# Altium schematic symbol library Optoelectronics.SchLib: 87 symbols
Pins are listed as number, name and electrical type; pins without a type are passive.

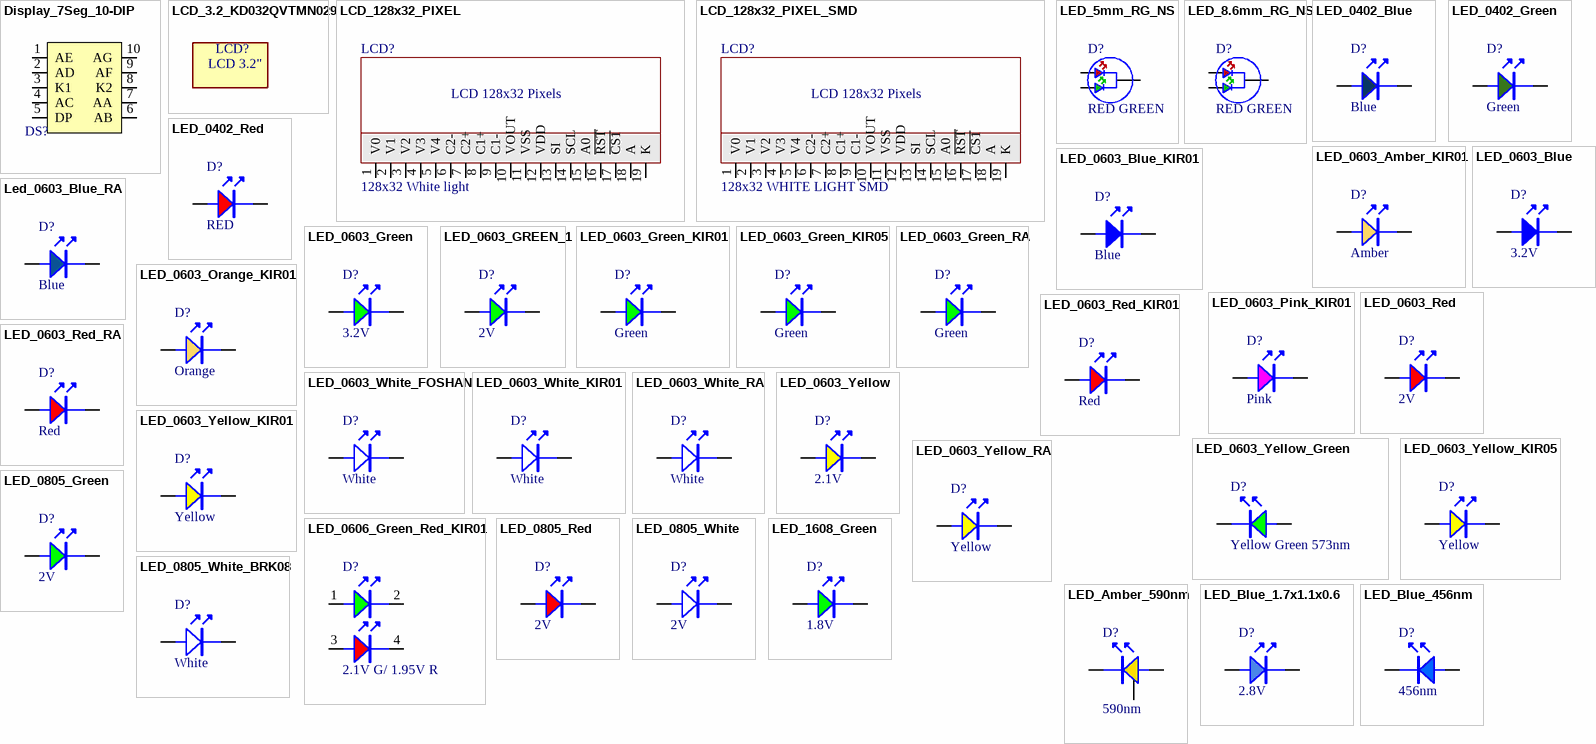
[diagram p0: symbols Display_7Seg_10-DIP to LED_Blue_456nm]

## Display_7Seg_10-DIP
designator DS?
DISPLAY 7SEG 0.56" SGL RED 10DIP; Manufacturer: Broadcom Limited; Manufacturer Part Number: HDSP-H103; Supplier 1: Digi-Key; Supplier Part Number 1: 516-1229-5-ND; Last modified by: J.Jaramillo; Last modified date: 20240328; Reel Stock: N/A; ComponentLink1Description: Link; ComponentLink2Description: Digi-Key; ComponentLink2URL: https://www.digikey.com/en/products/detail/broadcom-limited/HDSP-H103/637493
footprint DISPLAY_7SEG_10-DIP (/20240328/ J.Jaramillo)
pins: 1 AE, 2 AD, 3 K1 (power), 4 AC, 5 DP, 6 AB, 7 AA, 8 K2, 9 AF, 10 AG

## LCD_3.2_KD032QVTMN029
designator LCD?  (graphical)
LCD - HIGH BRIGHTNESS 3.2"; Manufacturer: SHENZEN STARTEK ELECTRONICS CO; Manufacturer Part Number: KD032QVTMN029; Supplier 1: Poshton; Supplier Part Number 1: KD032QVTMN029; Last modified by: J.Jaramillo; Last modified date: 20240310; Reel Stock: N/A; ComponentLink1Description: Datasheet; ComponentLink1URL: http://54.94.62.84/svn/Libraries/Altium/Optoelectronics/Datasheets/KD032QVTMN029%20(REV%20V1)(1).pdf
text: LCD 3.2"

## LCD_128x32_PIXEL
designator LCD?, comment 128x32 White light
LCD COG GRAPHIC 128X32; Manufacturer: Newhaven Display Intl; Manufacturer Part Number: NHD-C12832A1Z-FSW-FBW-3V3; Supplier 1: Digi-Key; Supplier Part Number 1: NHD-C12832A1Z-FSW-FBW-3V3-ND; Reel Stock: N/A; Last modified by: J.Jaramillo; Last modified date: 20240310; ComponentLink1Description: Digi-Key; ComponentLink1URL: https://www.digikey.com/product-detail/en/NHD-C12832A1Z-FSW-FBW-3V3/NHD-C12832A1Z-FSW-FBW-3V3-ND/2059236?utm_campaign=buynow&WT.z_cid=ref_octopart_dkc_buynow&utm_medium=aggregator&curr=usd&site=us&utm_source=octopart
footprint LCD_COG_128x32 (128x32 pixel / 20190226 / H-D.Garcia)
pins: 1 V0, 2 V1, 3 V2, 4 V3, 5 V4, 6 C2-, 7 C2+, 8 C1+, 9 C1-, 10 VOUT, 11 VSS, 12 VDD, 13 SI, 14 SCL, 15 A0, 16 ~{RST}, 17 ~{CS1}, 18 A, 19 K
text: LCD 128x32 Pixels

## LCD_128x32_PIXEL_SMD
designator LCD?, comment 128x32 WHITE LIGHT SMD
LCD COG GRAPHIC 128X32; Manufacturer: Newhaven Display Intl; Manufacturer Part Number: NHD-C12832A1Z-FSW-FBW-3V3; Supplier 1: Digi-Key; Supplier Part Number 1: NHD-C12832A1Z-FSW-FBW-3V3-ND; Reel Stock: N/A; Last modified by: J.Jaramillo; Last modified date: 20240310; ComponentLink1Description: Digi-Key; ComponentLink1URL: https://www.digikey.com/product-detail/en/NHD-C12832A1Z-FSW-FBW-3V3/NHD-C12832A1Z-FSW-FBW-3V3-ND/2059236?utm_campaign=buynow&WT.z_cid=ref_octopart_dkc_buynow&utm_medium=aggregator&curr=usd&site=us&utm_source=octopart
footprint LCD_COG_128x32_SMD (/ 20190328 / V-A.Patino)
pins: 1 V0, 2 V1, 3 V2, 4 V3, 5 V4, 6 C2-, 7 C2+, 8 C1+, 9 C1-, 10 VOUT, 11 VSS, 12 VDD, 13 SI, 14 SCL, 15 A0, 16 ~{RST}, 17 ~{CS1}, 18 A, 19 K
text: LCD 128x32 Pixels

## LED_5mm_RG_NS
designator D?, comment RED GREEN
LED GREEN/RED DIFFUSED T-1 T/H; Manufacturer: SunLED; Manufacturer Part Number: XLMDKVG34M; Reel Stock: N/A; Last modified by: J.Jaramillo; Last modified date: 20240310; Supplier 1: Digi-Key; Supplier Part Number 1: 1497-1019-ND; ComponentLink1Description: Digi-key; ComponentLink1URL: https://www.digikey.com/products/en?keywords=XLMDKVG34M
footprint LED_5mm_SMD_NS (20190516 / V-A.Patino)
pins: 1 (power), 2 (power), 3 (power)

## LED_8.6mm_RG_NS
designator D?, comment RED GREEN
LED GRN/RED DIFFUSED T-1 3/4 T/H; Manufacturer Part Number: LTL-30EHJ; Manufacturer: Lite-On Inc.; Last modified by: J.Jaramillo; Last modified date: 20240310; Supplier 1: Digikey; Supplier Part Number: 160-1057-ND; Reel Stock: N/A; ComponentLink1Description: Digikey; ComponentLink1URL: https://www.digikey.com/en/products/detail/lite-on-inc/LTL-30EHJ/121839
footprint LED_8.6mm_SMD_NS (/20201021 / J-E.Pachon)
pins: 1 (power), 2 (power), 3 (power)

## LED_0402_Blue
designator D?, comment Blue
LED BLUE CLEAR 0402 SMD; Manufacturer: QT Brightek (QTB); Manufacturer Part Number: QBLP595-IB; ComponentLink1URL: https://www.digikey.com/en/products/detail/qt-brightek-qtb/QBLP595-IB/6201906; Supplier 1: Digi-Key; Supplier Part Number 1: 1516-1215-1-ND; Last modified by: J.Jaramillo; Last modified date: 20240310; ComponentLink1Description: Digi-key; Reel Stock: N/A
footprint LED_0402 (0402 (1005 Metric) / 20191217 / N-A.Potosi)
pins: 1 A, 2

## LED_0402_Green
designator D?, comment Green
LED GREEN CLEAR 0402 SMD; Manufacturer: Wurth Electronics Inc.; Manufacturer Part Number: 150040VS73240; ComponentLink1URL: https://www.digikey.com/en/products/detail/w%C3%BCrth-elektronik/150040VS73240/8557157; Supplier 1: Digi-Key; Supplier Part Number 1: 732-11992-1-ND; Last modified by: J.Jaramillo; Last modified date: 20240310; ComponentLink1Description: Digi-key; Reel Stock: N/A
footprint LED_0402 (0402 (1005 Metric) / 20191217 / N-A.Potosi)
pins: 1 A, 2

## LED_0402_Red
designator D?, comment RED
LED RED CLEAR 0402 SMD; Manufacturer: Wurth Electronics Inc.; Manufacturer Part Number: 150040RS73240; ComponentLink1URL: https://www.digikey.com/product-detail/en/w-rth-elektronik/150040RS73240/732-11991-1-ND/8557201; Supplier 1: Digi-Key; Supplier Part Number 1: 732-11991-1-ND; Last modified by: J.Jaramillo; Last modified date: 20240310; ComponentLink1Description: Digi-key; Reel Stock: N/A
footprint LED_0402 (0402 (1005 Metric) / 20191217 / N-A.Potosi)
pins: 1 A, 2

## LED_0603_Amber_KIR01
designator D?, comment Amber
Amber LED 135mcd,160deg,diff; Manufacturer: Hivemicro; Manufacturer Part Number: HM-1608G-OHY; Supplier 1: Poshton; Supplier Part Number 1: HM-1608G-OHY; Last modified by: J.Jaramillo; Last modified date: 20240310; Reel Stock: N/A
footprint LED_0603_KIR01 (/ C-A.Serna.A / 20190709)
pins: 1 A, 2

## LED_0603_Blue
designator D?, comment 3.2V
LED BLUE CLEAR 0603 SMD; Manufacturer: Wurth Electronics Inc.; Manufacturer Part Number: 150060BS75000; ComponentLink1URL: https://www.digikey.com/product-detail/en/wurth-electronics-inc/150060BS75000/732-4966-1-ND/4489893; Supplier 1: Digi-Key; Supplier Part Number 1: 732-4966-1-ND; Last modified by: J.Jaramillo; Last modified date: 20240310; ComponentLink1Description: Digi-key; Reel Stock: N/A
footprint LED_0603 (1608 metric / 20190226 / H-D.Garcia)
pins: 1 A, 2 K

## LED_0603_Blue_KIR01
designator D?, comment Blue
Blue LED 42mcd,135deg,diff; Manufacturer: Hivemicro; Manufacturer Part Number: SV-CT0603UBC; Supplier 1: Poshton; Supplier Part Number 1: SV-CT0603UBC; Last modified by: J.Jaramillo; Last modified date: 20240310; Reel Stock: N/A
footprint LED_0603_KIR01 (/ C-A.Serna.A / 20190709)
pins: 1 A, 2 K

## Led_0603_Blue_RA
designator D?, comment Blue
LED BLUE CLEAR CHIP SMD R/A; Manufacturer: Lite-On Inc.; Manufacturer Part Number: LTST-S270TBKT; Supplier 1: Digi-Key; Supplier Part Number 1: 160-1650-1-ND; Reel Stock: N/A; Last modified by: J.Jaramillo; Last modified date: 20240310; ComponentLink1Description: Digi-Key; ComponentLink1URL: https://www.digikey.com/en/products/detail/lite-on-inc/LTST-S270TBKT/573548
footprint LED_0603_RA (/20220504/J-E.Pachon)
pins: 1 A, 2 C

## LED_0603_Green
designator D?, comment 3.2V
LED GREEN CLEAR 0603 SMD; Manufacturer: Wurth Electronics Inc.; Manufacturer Part Number: 150060GS75000; ComponentLink1URL: https://www.digikey.com/products/en?keywords=732-4971-1-ND; Supplier 1: Digi-Key; Supplier Part Number 1: 732-4971-1-ND; Last modified by: J.Jaramillo; Last modified date: 20240310; ComponentLink1Description: Digi-key; Reel Stock: N/A
footprint LED_0603 (1608 metric / 20190226 / H-D.Garcia)
pins: 1 A, 2

## LED_0603_GREEN_1
designator D?, comment 2V
LED GREEN CLEAR 0603 SMD; Manufacturer: Dialight; Manufacturer Part Number: 5988070107F; Supplier 1: Digi-Key; Supplier Part Number 1: 350-2035-1-ND; Reel Stock: N/A; Last modified by: J.Jaramillo; Last modified date: 20240310; ComponentLink1Description: Digi-Key; ComponentLink1URL: https://www.digikey.com/en/products/detail/dialight/5988070107F/1291269
footprint LED_0603 (1608 metric / 20190226 / H-D.Garcia)
pins: 1, 2

## LED_0603_Green_KIR01
designator D?, comment Green
Green LED 15mcd,170deg,diff; Manufacturer: Hivemicro; Manufacturer Part Number: LY-0603C-YG; Supplier 1: Poshton; Supplier Part Number 1: LY-0603C-YG; Reel Stock: N/A; Last modified by: J.Jaramillo; Last modified date: 20240310
footprint LED_0603_KIR01 (/ V-A.Patino / 20220622)
pins: 1 A, 2

## LED_0603_Green_KIR05
designator D?, comment Green
LED GREEN DIFFUSED 0603 SMD; Manufacturer: OSRAM Opto Semiconductors Inc.; Manufacturer Part Number: LG L29K-F2J1-24-Z; Supplier 1: Digi-Key; Supplier Part Number 1: 475-3118-1-ND; Reel Stock: N/A; Last modified by: J.Jaramillo; Last modified date: 20240310; ComponentLink1Description: Digi-Key; ComponentLink1URL: https://www.digikey.com/en/products/detail/osram-opto-semiconductors-inc/LG-L29K-F2J1-24-Z/2513791?s=N4IgTCBcDaICwHYCsBaAzARgwDhRlAcgCIgC6AvkA
footprint LED_0603 (1608 metric / 20190226 / H-D.Garcia)
pins: 1 A, 2

## LED_0603_Green_RA
designator D?, comment Green
LED GREEN CLEAR CHIP SMD R/A; Manufacturer: Lite-On Inc.; Manufacturer Part Number: LTST-S270KGKT; Supplier 1: Digi-Key; Supplier Part Number 1: 160-1478-1-ND; Reel Stock: N/A; Last modified by: J.Jaramillo; Last modified date: 20240310; ComponentLink1Description: Digi-Key; ComponentLink1URL: https://www.digikey.com/en/products/detail/lite-on-inc/LTST-S270KGKT/386893?s=N4IgTCBcDaIDIBUDKCC0SwHYAMBpA4rgiALoC%2BQA
footprint LED_0603_RA (/20220504/J-E.Pachon)
pins: 1 A, 2 C

## LED_0603_Orange_KIR01
designator D?, comment Orange
Orange LED 157mcd,160deg,diff; Manufacturer: Hivemicro; Manufacturer Part Number: SV-C0603UOC; Supplier 1: Poshton; Supplier Part Number 1: SV-C0603UOC; Last modified by: J.Jaramillo; Last modified date: 20240310; Reel Stock: N/A
footprint LED_0603_KIR01 (/ C-A.Serna.A / 20190709)
pins: 1 A, 2

## LED_0603_Pink_KIR01
designator D?, comment Pink
Pink LED 26mcd; Manufacturer: Hivemicro; Manufacturer Part Number: HM0603D-PP; Supplier 1: Poshton; Supplier Part Number 1: HM0603D-PP; Reel Stock: N/A; Last modified by: J.Jaramillo; Last modified date: 20240310
footprint LED_0603_KIR01 (/ C-A.Serna.A / 20190709)
pins: 1 A, 2

## LED_0603_Red
designator D?, comment 2V
LED RED CLEAR 0603 SMD; Manufacturer: Wurth Electronics Inc.; Manufacturer Part Number: 150060RS75000; ComponentLink1URL: https://www.digikey.com/product-detail/en/wurth-electronics-inc/150060RS75000/732-4978-1-ND/4489899; Supplier 1: Digi-Key; Supplier Part Number 1: 732-4978-1-ND; Last modified by: J.Jaramillo; Last modified date: 20240310; ComponentLink1Description: Digi-key; Reel Stock: N/A
footprint LED_0603 (1608 metric / 20190226 / H-D.Garcia)
pins: 1 A, 2

## LED_0603_Red_KIR01
designator D?, comment Red
Red LED 104mcd,160deg,diff; Manufacturer: Hivemicro; Manufacturer Part Number: LY-0603 C-RD; Supplier 1: Poshton; Supplier Part Number 1: LY-0603 C-RD; Last modified by: J.Jaramillo; Last modified date: 20240310; Reel Stock: N/A
footprint LED_0603_KIR01 (/ C-A.Serna.A / 20190709)
pins: 1 A, 2

## LED_0603_Red_RA
designator D?, comment Red
LED RED CLEAR CHIP SMD R/A; Manufacturer: Lite-On Inc.; Manufacturer Part Number: LTST-S270KRKT; Supplier 1: Digi-Key; Supplier Part Number 1: 160-1479-1-ND; Reel Stock: N/A; Last modified by: J.Jaramillo; Last modified date: 20240310; ComponentLink1Description: Digi-Key; ComponentLink1URL: https://www.digikey.com/en/products/detail/lite-on-inc/LTST-S270KRKT/386895?s=N4IgTCBcDaIDIBUDKCC0SwHYAMBpASrgiALoC%2BQA
footprint LED_0603_RA (/20220504/J-E.Pachon)
pins: 1 A, 2 C

## LED_0603_White_FOSHAN
designator D?, comment White
White 0603 Light Emitting Diodes (LED) RoHS; Manufacturer: FOSHAN NATIONSTAR OPTOELECTRONICS; Manufacturer Part Number: NCD0603W1; Supplier 1: LCSC; Supplier Part Number 1: C84265; Last modified by: J.Jaramillo; Last modified date: 20240310; Reel Stock: N/A; ComponentLink1Description: LCSC; ComponentLink1URL: https://lcsc.com/product-detail/Light-Emitting-Diodes-LED_Foshan-NationStar-Optoelectronics-NCD0603W1_C84265.html
footprint LED_0603 (1608 metric / 20190226 / H-D.Garcia)
pins: 1 A, 2

## LED_0603_White_KIR01
designator D?, comment White
White LED 200mcd,140deg, diff; Manufacturer: Hivemicro; Manufacturer Part Number: SV-CT0603UW-HD; Supplier 1: Poshton; Supplier Part Number 1: SV-CT0603UW-HD; Last modified by: J.Jaramillo; Last modified date: 20240310; Reel Stock: N/A
footprint LED_0603_KIR01 (/ C-A.Serna.A / 20190709)
pins: 1 A, 2

## LED_0603_White_RA
designator D?, comment White
LED WHITE CLEAR 0603 SMD R/A; Manufacturer: Inolux; Manufacturer Part Number: IN-S63AS5UW; Supplier 1: Digi-Key; Supplier Part Number 1: 1830-1031-1-ND; Reel Stock: N/A; Last modified by: J.Jaramillo; Last modified date: 20240310; ComponentLink1Description: Digi-Key; ComponentLink1URL: https://www.digikey.com/en/products/detail/inolux/IN-S63AS5UW/7604923
footprint LED_0603_RA (/20220504/J-E.Pachon)
pins: 1 A, 2

## LED_0603_Yellow
designator D?, comment 2.1V
LED YELLOW CLEAR SMD; Manufacturer: Lite-On Inc.; Manufacturer Part Number: LTST-C191KSKT; Supplier 1: Digi-Key; Supplier Part Number 1: 160-1448-1-ND; Last modified by: J.Jaramillo; Last modified date: 20240310; Reel Stock: N/A; ComponentLink1Description: Digi-Key; ComponentLink1URL: https://www.digikey.com/product-detail/en/lite-on-inc/LTST-C191KSKT/160-1448-2-ND/386839
footprint LED_0603 (1608 metric / 20190226 / H-D.Garcia)
pins: 1 A, 2

## LED_0603_Yellow_Green
designator D?, comment Yellow Green 573nm
LED YELLOW/GREEN CLEAR 0603 SMD; Manufacturer: Everlight Electronics Co Ltd; Manufacturer Part Number: 19-21SYGC/S530-E2/TR8; Supplier 1: Digi-Key; Supplier Part Number 1: 1080-1501-1-ND; Reel Stock: N/A; Last modified by: J.Jaramillo; Last modified date: 20240310; ComponentLink1Description: Digi-Key; ComponentLink1URL: https://www.digikey.com/product-detail/en/everlight-electronics-co-ltd/19-21SYGC-S530-E2-TR8/1080-1501-1-ND/7707773
footprint LED_0603 (1608 metric / 20190226 / H-D.Garcia)
pins: 1 K, 2 A

## LED_0603_Yellow_KIR01
designator D?, comment Yellow
Yellow LED 162mcd,140deg, diff; Manufacturer: Hivemicro; Manufacturer Part Number: SV-C0603 YEC; Supplier 1: Poshton; Supplier Part Number 1: SV-C0603 YEC; Last modified by: J.Jaramillo; Last modified date: 20240310; Reel Stock: N/A
footprint LED_0603_KIR01 (/ C-A.Serna.A / 20190709)
pins: 1 A, 2

## LED_0603_Yellow_KIR05
designator D?, comment Yellow
LED YELLOW DIFFUSED 0603 SMD; Manufacturer: OSRAM Opto Semiconductors Inc.; Manufacturer Part Number: LY L29K-H1K2-26-Z; Supplier 1: Digi-Key; Supplier Part Number 1: 475-1196-1-ND; Last modified by: J.Jaramillo; Last modified date: 20240310; Reel Stock: N/A; ComponentLink1Description: Digi-Key; ComponentLink1URL: https://www.digikey.com/products/en?keywords=475-1196-1-ND
footprint LED_0603 (1608 metric / 20190226 / H-D.Garcia)
pins: 1 A, 2

## LED_0603_Yellow_RA
designator D?, comment Yellow
LED YELLOW CLEAR CHIP SMD R/A; Manufacturer: Lite-On Inc.; Manufacturer Part Number: LTST-S270KSKT; Supplier 1: Digi-Key; Supplier Part Number 1: 160-1480-1-ND; Reel Stock: N/A; Last modified by: J.Jaramillo; Last modified date: 20240310; ComponentLink1Description: Digi-Key; ComponentLink1URL: https://www.digikey.com/en/products/detail/lite-on-inc/LTST-S270KSKT/386897?s=N4IgTCBcDaIDIBUDKCC0SwHYAMBpJuCIAugL5A
footprint LED_0603_RA (/20220504/J-E.Pachon)
pins: 1 A, 2

## LED_0606_Green_Red_KIR01
designator D?, comment 2.1V G/ 1.95V R
LED GREEN/RED CLEAR CHIP SMD; Manufacturer: Kingbright; Manufacturer Part Number: APTB1615SURKCGKC-F01; Supplier 1: Digi-Key; Supplier Part Number 1: 754-1653-1-ND; Reel Stock: N/A; Last modified by: J.Jaramillo; Last modified date: 20240310; ComponentLink1Description: Digi-Key; ComponentLink1URL: https://www.digikey.com/product-detail/en/kingbright/APTB1615SURKCGKC-F01/754-1653-1-ND/4199675
footprint LED_0606 (1616 Metric  / C-A.Serna.A / 20190709)
pins: 1 A, 2 K, 3 A, 4 K

## LED_0805_Green
designator D?, comment 2V
LED GREEN CLEAR 0805 SMD; Manufacturer: HIVEMICRO; Manufacturer Part Number: HAM-C171KGKT-YA; Supplier 1: Poshton; Supplier Part Number 1: HAM-C171KGKT-YA; Last modified by: J.Jaramillo; Last modified date: 20240310; Reel Stock: N/A
footprint LED_0805 (2012 metric / 20200123 / V-A.Patino)
footprint LED_0805_2 (2012 metric / 20200123 / V-A.Patino)
pins: 1 A, 2

## LED_0805_Red
designator D?, comment 2V
LED RED CLEAR 0805 SMD; Manufacturer: HIVEMICRO; Manufacturer Part Number: 27HAM-C171KRKT-YA; Supplier 1: Poshton; Supplier Part Number 1: 27HAM-C171KRKT-YA; Last modified by: J.Jaramillo; Last modified date: 20240310; Reel Stock: N/A
footprint LED_0805 (2012 metric / 20200123 / V-A.Patino)
footprint LED_0805_2 (2012 metric / 20200123 / V-A.Patino)
pins: 1 A, 2

## LED_0805_White
designator D?, comment 2V
LED WHITE CLEAR 0805 SMD; Manufacturer: HIVEMICRO; Manufacturer Part Number: HAM-170ZDC-YA; Supplier 1: Poshton; Supplier Part Number 1: HAM-170ZDC-YA; Last modified by: J.Jaramillo; Last modified date: 20240310; Reel Stock: N/A
footprint LED_0805 (2012 metric / 20200123 / V-A.Patino)
footprint LED_0805_2 (2012 metric / 20200123 / V-A.Patino)
pins: 1 A, 2

## LED_0805_White_BRK08
designator D?, comment White
WHITE 0805 LIGHT EMITTING DIODES (LED) ROHS; Manufacturer: FOSHAN NATIONSTAR OPTOELECTRONICS; Manufacturer Part Number: NCD0805W2; Supplier 1: LCSC; Supplier Part Number 1: C84258; Last modified by: J.Jaramillo; Last modified date: 20240310; Reel Stock: N/A; ComponentLink1Description: LCSC; ComponentLink1URL: https://lcsc.com/product-detail/Light-Emitting-Diodes-LED_Foshan-NationStar-Optoelectronics-NCD0805W2_C84258.html
footprint LED_0805 (2012 metric / 20200123 / V-A.Patino)
pins: 1 A, 2

## LED_1608_Green
designator D?, comment 1.8V
LED PURE GREEN 1608 SMD; Manufacturer: OSRAM Opto Semiconductors Inc.; Manufacturer Part Number: KP DELLS1.22-FGGI-25-0-2-S; ComponentLink1URL: https://www.digikey.com/en/products/detail/osram-opto-semiconductors-inc/KP-DELLS1-22-FGGI-25-0-2-S/10433452?s=N4IgTCBcDaINIAUAEARAogGQwZQIwDowwBaAMQHFyBJYsAVmIAZbjsQBdAXyA; Supplier 1: Digi-Key; Supplier Part Number 1: 475-KPDELLS1.22-FGGI-25-0-2-STR-ND; Last modified by: J.Jaramillo; Last modified date: 20240310; ComponentLink1Description: Digi-key; Reel Stock: N/A
footprint LED_0603 (1608 metric / 20190226 / H-D.Garcia)
pins: 1 A, 2

## LED_Amber_590nm
designator D?, comment 590nm
LED XLAMP XPE2 AMBER 590NM 2SMD; Manufacturer: Cree Inc.; Manufacturer Part Number: XPEBAM-L1-0000-00801; Supplier 1: Digi-Key; Supplier Part Number 1: XPEBAM-L1-0000-00801CT-ND; Reel Stock: N/A; Last modified by: J.Jaramillo; Last modified date: 20240310; ComponentLink1Description: Digi-Key; ComponentLink1URL: https://www.digikey.com/product-detail/en/cree-inc/XPEBAM-L1-0000-00801/XPEBAM-L1-0000-00801CT-ND/5806125
footprint LED_3535_EP (1414/3.5mmx3.5mm/ 2-SMD/ 20190527/ J-P.Vargas.A)
pins: 1 K, 2 A, 3 EP

## LED_Blue_1.7x1.1x0.6
designator D?, comment 2.8V
Light Emitting Diodes (LED), 462.5nm~470nm Blue, 25mA 43mcd 2.8V; Manufacturer: XINGLIGHT; Manufacturer Part Number: XL-1606UBC; Supplier 1: LCSC; Supplier Part Number 1: C965865; Last modified by: J.Jaramillo; Last modified date: 20240310; Reel Stock: N/A; ComponentLink1Description: LCSC; ComponentLink1URL: https://lcsc.com/product-detail/Light-Emitting-Diodes-LED_XINGLIGHT-XL-1606UBC_C965865.html
footprint LED_2_SMD_1.7x1.1x0.6 (/20220503/V-A.Patino)
pins: 1 A, 2

## LED_Blue_456nm
designator D?, comment 456nm
LED BLUE CLEAR 2SMD; Manufacturer: Wurth Electronics Inc.; Manufacturer Part Number: 150224BS73100; Supplier 1: Digi-Key; Supplier Part Number 1: 732-11397-1-ND; Reel Stock: N/A; Last modified by: J.Jaramillo; Last modified date: 20240310; ComponentLink1Description: Digi-Key; ComponentLink1URL: https://www.digikey.com/product-detail/en/wurth-electronics-inc/150224BS73100/732-11397-1-ND/7316002
footprint LED_2014_2P (2-SMD/ 20190527/ J-P.Vargas.A)
pins: 1 K, 2 A

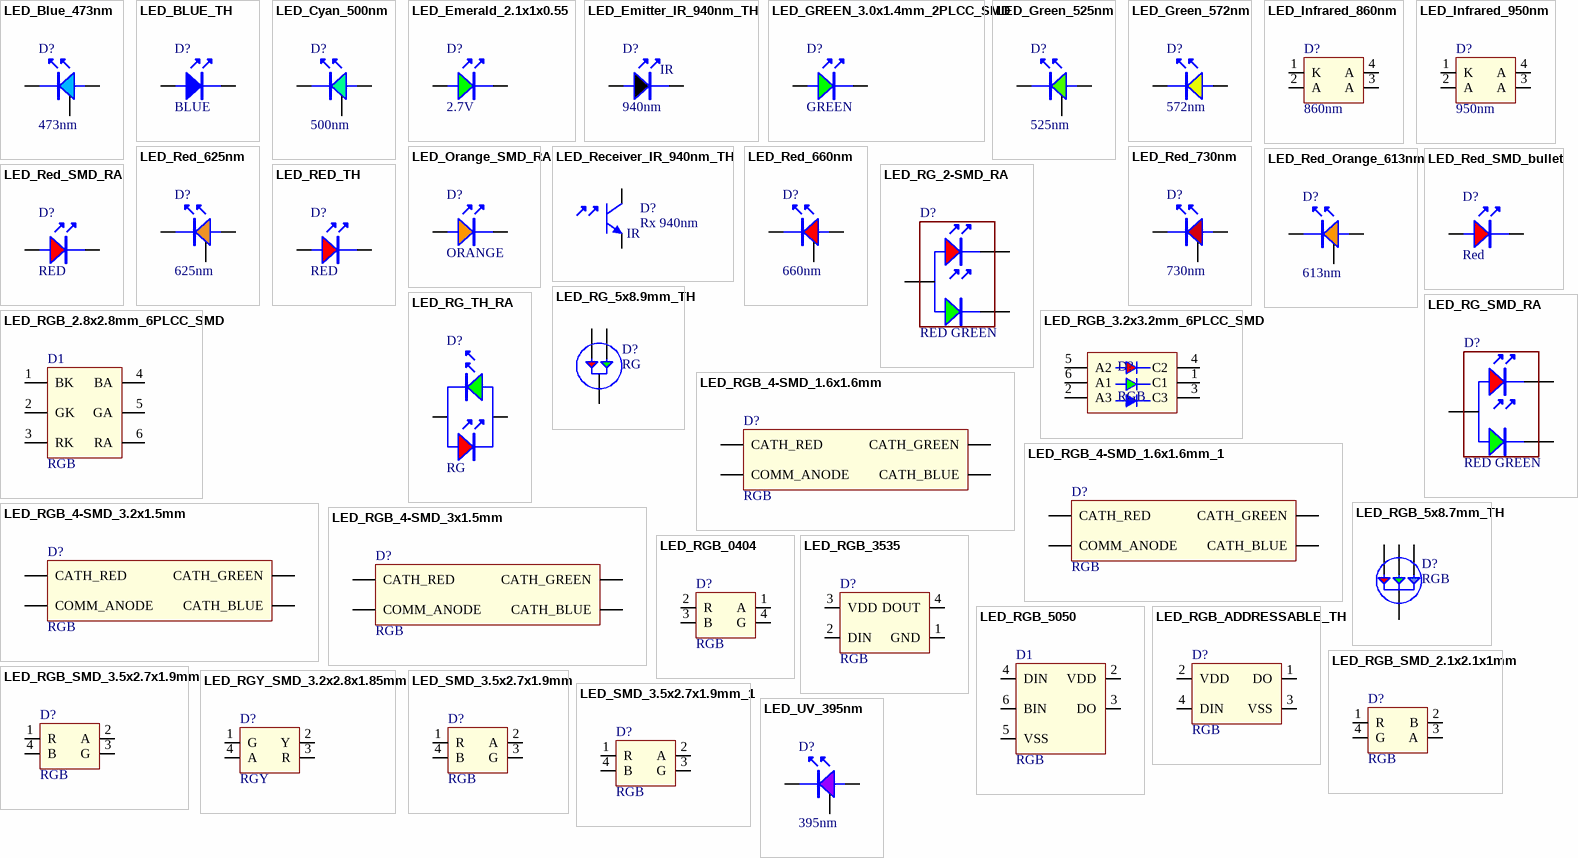
[diagram p1: symbols LED_Blue_473nm to LED_UV_395nm]

## LED_Blue_473nm
designator D?, comment 473nm
LED XLAMP XPE2 BLUE 473NM 2SMD; Manufacturer: Cree Inc.; Manufacturer Part Number: XPEBBL-L1-0000-00302; Supplier 1: Digi-Key; Supplier Part Number 1: XPEBBL-L1-0000-00302CT-ND; Reel Stock: N/A; Last modified by: J.Jaramillo; Last modified date: 20240310; ComponentLink1Description: Digi-Key; ComponentLink1URL: https://www.digikey.com/product-detail/en/cree-inc/XPEBBL-L1-0000-00302/XPEBBL-L1-0000-00302CT-ND/5766420
footprint LED_3535_EP (3.5mmx3.5mm/ 2-SMD/ 20190527/ J-P.Vargas.A)
pins: 1 K, 2 A, 3 EP

## LED_BLUE_TH
designator D?, comment BLUE
Blue 460nm~470nm 2.7V~3.6V Through Hole Light Emitting Diodes (LED) RoHS; Manufacturer: TOGIALED; Manufacturer Part Number: TJ-L5FYTGCBMCGLFLC6B-A5; Supplier 1: LCSC; Supplier Part Number 1: C330764; Last modified by: J.Jaramillo; Last modified date: 20240310; Reel Stock: N/A; ComponentLink1Description: LCSC; ComponentLink1URL: https://lcsc.com/product-detail/Light-Emitting-Diodes-LED_TOGIALED-TJ-L5FYTGCBMCGLFLC6B-A5_C330764.html
footprint LED_BLUE_TH (/20220830/F-A.Ocpina)
pins: 1 A, 2 K

## LED_Cyan_500nm
designator D?, comment 500nm
LED LUXEON C CYAN 500NM; Manufacturer: Lumileds; Manufacturer Part Number: L1C1-CYN1000000000; Supplier 1: Digi-Key; Supplier Part Number 1: 1416-1917-1-ND; Reel Stock: N/A; Last modified by: J.Jaramillo; Last modified date: 20240310; ComponentLink1Description: Digi-Key; ComponentLink1URL: https://www.digikey.com/product-detail/en/lumileds/L1C1-CYN1000000000/1416-1917-1-ND/5872100
footprint LED_2020_EP (0707/ 1919 Metric/ 20190527/ J-P.Vargas.A)
pins: 1 K, 2 A, 3 EP

## LED_Emerald_2.1x1x0.55
designator D?, comment 2.7V
Light Emitting Diodes (LED), 517.5nm~525nm Emerald, 25mA 230mcd 2.7V; Manufacturer: XINGLIGHT; Manufacturer Part Number: XL-2106UGC; Supplier 1: LCSC; Supplier Part Number 1: C965870; Last modified by: J.Jaramillo; Last modified date: 20240310; Reel Stock: N/A; ComponentLink1Description: LCSC; ComponentLink1URL: https://lcsc.com/product-detail/Light-Emitting-Diodes-LED_XINGLIGHT-XL-2106UGC_C965870.html
footprint LED_2_SMD_2.1x1x0.55 (/20220503/V-A.Patino)
pins: 1 A, 2

## LED_Emitter_IR_940nm_TH
designator D?, comment 940nm
EMITTER IR 940NM; Manufacturer: OSRAM Opto Semiconductors Inc.; Manufacturer Part Number: SFH 4544; Supplier 1: Digi-Key; Supplier Part Number 1: 475-3524-ND; Last modified by: J.Jaramillo; Last modified date: 20240310; Reel Stock: N/A; ComponentLink2Description: Digi-Key; ComponentLink2URL: https://www.digikey.com/en/products/detail/osram-opto-semiconductors-inc/SFH-4544/5231484?s=N4IgTCBcDaIMoDEASACALAVjWkBdAvkA
footprint LED_IR_TH (/20210602/J-E.Pachon)
footprint LED_IR_TH - RA (/20221124/N-A.Potosi)
pins: 1 A, 2
text: IR

## LED_GREEN_3.0x1.4mm_2PLCC_SMD
designator D?, comment GREEN
LED GREEN CLEAR 2PLCC SMD; Manufacturer: HMS3014-YG; Manufacturer Part Number: HIVEMICRO; Supplier 1: Poshton; Supplier Part Number 1: HMS3014-YG; Reel Stock: N/A; Last modified by: J.Jaramillo; Last modified date: 20240310
footprint LED_GREEN_SMD_2PLCC_Modified (/20210205/M-C.Calderon)
pins: 1, 2

## LED_Green_525nm
designator D?, comment 525nm
LED XLAMP XPE2 GREEN 525NM 2SMD; Manufacturer: Cree Inc.; Manufacturer Part Number: XPEBGR-L1-0000-00F02; Supplier 1: Digi-Key; Supplier Part Number 1: XPEBGR-L1-0000-00F02CT-ND; Reel Stock: N/A; Last modified by: J.Jaramillo; Last modified date: 20240310; ComponentLink1Description: Digi-Key; ComponentLink1URL: https://www.digikey.com/product-detail/en/cree-inc/XPEBGR-L1-0000-00F02/XPEBGR-L1-0000-00F02CT-ND/5806140
footprint LED_3535_EP (1414/3.5mmx3.5mm/ 2-SMD/ 20190527/ J-P.Vargas.A)
pins: 1 K, 2 A, 3 EP

## LED_Green_572nm
designator D?, comment 572nm
LED GREEN CLEAR 2PLCC SMD; Manufacturer: Rohm Semiconductor; Manufacturer Part Number: SML-Z14M4TT86; Supplier 1: Digi-Key; Supplier Part Number 1: 846-1043-1-ND; Reel Stock: N/A; Last modified by: J.Jaramillo; Last modified date: 20240310; ComponentLink1Description: Digi-Key; ComponentLink1URL: https://www.digikey.com/product-detail/en/rohm-semiconductor/SML-Z14M4TT86/846-1043-1-ND/2425051
footprint LED_3528_2P (1411/ 20190530/ J-P.Vargas.A)
pins: 1 K, 2 A

## LED_Infrared_860nm
designator D?, comment 860nm
EMITTER IR 860NM 100MA PLCC; Manufacturer: OSRAM Opto Semiconductors Inc.; Manufacturer Part Number: SFH 4250S; Supplier 1: Digi-Key; Supplier Part Number 1: 475-3004-1-ND; Reel Stock: N/A; Last modified by: J.Jaramillo; Last modified date: 20240310; ComponentLink1Description: Digi-Key; ComponentLink1URL: https://www.digikey.com/product-detail/en/osram-opto-semiconductors-inc/SFH-4250S/475-3004-1-ND/3461839
footprint LED_4PLCC (20190530/ J-P.Vargas.A)
pins: 1 K, 2 A, 3 A, 4 A

## LED_Infrared_950nm
designator D?, comment 950nm
EMITTER IR 950NM 100MA PLCC; Manufacturer: OSRAM Opto Semiconductors Inc.; Manufacturer Part Number: SFH 4240-Z; Supplier 1: Digi-Key; Supplier Part Number 1: 475-2653-1-ND; Reel Stock: N/A; Last modified by: J.Jaramillo; Last modified date: 20240310; ComponentLink1Description: Digi-Key; ComponentLink1URL: https://www.digikey.com/product-detail/en/osram-opto-semiconductors-inc/SFH-4240-Z/475-2653-1-ND/1893879
footprint LED_4PLCC (20190530/ J-P.Vargas.A)
pins: 1 K, 2 A, 3 A, 4 A

## LED_Orange_SMD_RA
designator D?, comment ORANGE
LED ORANGE CLEAR SMD R/A; Manufacturer: Kingbright; Manufacturer Part Number: APA2107SECK/J4-PRV; Supplier 1: Digi-Key; Supplier Part Number 1: 754-2098-1-ND; Reel Stock: N/A; Last modified by: J.Jaramillo; Last modified date: 20240310; ComponentLink1Description: Digikey; ComponentLink1URL: https://www.digikey.com/en/products/detail/kingbright/APA2107SECK-J4-PRV/7319026
footprint LED_ORANGE_SMD_RA (/20201028/J-E.Pachon)
pins: 1 A, 2

## LED_Receiver_IR_940nm_TH
designator D?, comment Rx 940nm
SENSOR PHOTO 940NM TOP VIEW RAD; Manufacturer: Lite-On Inc.; Manufacturer Part Number: LTR-3208E; Supplier 1: Digi-Key; Supplier Part Number 1: 160-1031-ND; Last modified by: J.Jaramillo; Last modified date: 20240310; Reel Stock: N/A; ComponentLink2Description: Digi-Key; ComponentLink2URL: https://www.digikey.com/en/products/detail/lite-on-inc/LTR-3208E/121719?s=N4IgTCBcDaIDIBUBKBaAzGADADgKIgF0BfIA
footprint LED_IR_TH_REC (/20221122/J-E.Pachon)
footprint LED_IR_TH_REC - RA (/20221124/N-A.Potosi)
pins: 1 E, 2 C
text: IR

## LED_Red_625nm
designator D?, comment 625nm
XLAMP XP-E2 COLOR LEDS; Manufacturer: Cree Inc.; Manufacturer Part Number: XPEBRD-L1-0000-00801; Supplier 1: Digi-Key; Supplier Part Number 1: XPEBRD-L1-0000-00801CT-ND; Reel Stock: N/A; Last modified by: J.Jaramillo; Last modified date: 20240310; ComponentLink1Description: Digi-Key; ComponentLink1URL: https://www.digikey.com/product-detail/en/cree-inc/XPEBRD-L1-0000-00801/XPEBRD-L1-0000-00801CT-ND/4111311
footprint LED_3535_EP (1414/3.5mmx3.5mm/ 2-SMD/ 20190527/ J-P.Vargas.A)
pins: 1 K, 2 A, 3 EP

## LED_Red_660nm
designator D?, comment 660nm
XPE HE PHOTO RED LIGHT EMITTING; Manufacturer: Cree Inc.; Manufacturer Part Number: XPEEPR-L1-0000-00901; Supplier 1: Digi-Key; Supplier Part Number 1: XPEEPR-L1-0000-00901CT-ND; Reel Stock: N/A; Last modified by: J.Jaramillo; Last modified date: 20240310; ComponentLink1Description: Digi-Key; ComponentLink1URL: https://www.digikey.com/product-detail/en/cree-inc/XPEEPR-L1-0000-00901/XPEEPR-L1-0000-00901CT-ND/9954362
footprint LED_3535_EP (1414/3.5mmx3.5mm/ 2-SMD/ 20190527/ J-P.Vargas.A)
pins: 1 K, 2 A, 3 EP

## LED_Red_730nm
designator D?, comment 730nm
LED XLAMP XP-E2 HE RED SMD; Manufacturer: Cree Inc.; Manufacturer Part Number: XPEBFR-L1-0000-00701; Supplier 1: Digi-Key; Supplier Part Number 1: XPEBFR-L1-0000-00701CT-ND; Reel Stock: N/A; Last modified by: J.Jaramillo; Last modified date: 20240310; ComponentLink1Description: Digi-Key; ComponentLink1URL: https://www.digikey.com/product-detail/en/cree-inc/XPEBFR-L1-0000-00701/XPEBFR-L1-0000-00701CT-ND/9998285
footprint LED_3535_EP (1414/3.5mmx3.5mm/ 20190527/ J-P.Vargas.A)
pins: 1 K, 2 A, 3 EP

## LED_Red_Orange_613nm
designator D?, comment 613nm
LED XLAMP XPE2 RED/ORN 613NM SMD; Manufacturer: Cree Inc.; Manufacturer Part Number: XPEBRO-L1-R250-00B02; Supplier 1: Digi-Key; Supplier Part Number 1: XPEBRO-L1-R250-00B02CT-ND; Reel Stock: N/A; Last modified by: J.Jaramillo; Last modified date: 20240310; ComponentLink1Description: Digi-Key; ComponentLink1URL: https://www.digikey.com/product-detail/en/cree-inc/XPEBRO-L1-R250-00B02/XPEBRO-L1-R250-00B02CT-ND/5806150
footprint LED_3535_EP (1414/3.5mmx3.5mm/ 2-SMD/ 20190527/ J-P.Vargas.A)
pins: 1 K, 2 A, 3 EP

## LED_Red_SMD_bullet
designator D?, comment Red
LED RED 5MM ROUND T/H COLOR DIFF; Manufacturer: QT Brightek (QTB); Manufacturer Part Number: QBL8R60D; Supplier 1: Digi-Key; Supplier Part Number 1: 1516-1359-ND; Reel Stock: N/A; Last modified by: J.Jaramillo; Last modified date: 20240310; ComponentLink1Description: Digi-Key; ComponentLink1URL: https://www.digikey.com/en/products/detail/qt-brightek-qtb/QBL8R60D/9354283?s=N4IgTCBcDaIIwFY4DYC0cDMCCcqByAIiALoC%2BQA
footprint LED_RED_SMD_bullet (/20201021/J-E.Pachon)
pins: 1 A, 2

## LED_Red_SMD_RA
designator D?, comment RED
LED RED CLEAR 1204 SMD R/A; Manufacturer: Würth Elektronik; Manufacturer Part Number: 155124RS73200; Supplier 1: Digikey; Supplier Part Number 1: 732-5025-1-ND; Reel Stock: N/A; Last modified by: J.Jaramillo; Last modified date: 20240310; ComponentLink1Description: Digikey; ComponentLink1URL: https://www.digikey.com/en/products/detail/w%C3%BCrth-elektronik/155124RS73200/4490041
footprint LED_RED_SMD_RA (/20201022/J-E.Pachon)
pins: 1 A, 2

## LED_RED_TH
designator D?, comment RED
Red 620nm~630nm 1.8V~2.6V Through Hole Light Emitting Diodes (LED) RoHS; Manufacturer: TOGIALED; Manufacturer Part Number: TJ-L5FYTGCRTFCSFLC2R-A5; Supplier 1: LCSC; Supplier Part Number 1: C331032; Last modified by: J.Jaramillo; Last modified date: 20240310; Reel Stock: N/A; ComponentLink1Description: LCSC; ComponentLink1URL: https://lcsc.com/product-detail/Light-Emitting-Diodes-LED_TOGIALED-TJ-L5FYTGCRTFCSFLC2R-A5_C331032.html
footprint LED_RED_TH (/20210602/J-E.Pachon)
pins: 1 A, 2 K

## LED_RG_2-SMD_RA
designator D?, comment RED GREEN
LED GREEN/RED CLEAR CHIP SMD R/A; Manufacturer: Lite-On Inc.; Manufacturer Part Number: LTST-S326KGJRKT; Supplier 1: Digi-Key; Supplier Part Number 1: 160-2033-1-ND; Reel Stock: N/A; Last modified by: J.Jaramillo; Last modified date: 20240310; ComponentLink1Description: Digi-Key; ComponentLink1URL: https://www.digikey.com/en/products/detail/lite-on-inc/LTST-S326KGJRKT/3198784
footprint LED_RG_2-SMD_RA (/20220510/J-E.Pachon)
pins: 1, 2, 3

## LED_RG_5x8.9mm_TH
designator D?, comment RG
5MM RED & GREEN BI-COLOR LED LAM; Manufacturer: QT Brightek (QTB); Manufacturer Part Number: QBL8RAG60D1; Supplier 1: Digi-key; Supplier Part Number 1: 1516-QBL8RAG60D1-ND; Reel Stock: N/A; Last modified by: J.Jaramillo; Last modified date: 20240310; ComponentLink1Description: LCSC; ComponentLink1URL: https://www.digikey.com/en/products/detail/qt-brightek-qtb/QBL8RAG60D1/16499666
footprint LED_RG_5.85MM_TH (Footprint not found)
pins: 1 G, 2 K, 3 R

## LED_RG_SMD_RA
designator D?, comment RED GREEN
LED GRN/RED CLEAR 2SMD R/A; Manufacturer: Würth Elektronik; Manufacturer Part Number: 155124RV73200; Supplier 1: Digikey; Supplier Part Number 1: 732-11416-1-ND; Reel Stock: N/A; Last modified by: J.Jaramillo; Last modified date: 20240310; ComponentLink1Description: Digikey; ComponentLink1URL: https://www.digikey.com/en/products/detail/w%C3%BCrth-elektronik/155124RV73200/7315818
footprint LED_RG_SMD_RA
pins: 1, 2, 3

## LED_RG_TH_RA
designator D?, comment RG
LED ASSY RA 3MM HER/GN 635/568NM; Manufacturer: Bivar Inc.; Manufacturer Part Number: H101CBC; Supplier 1: Digi-Key; Supplier Part Number 1: 492-1872-ND; Reel Stock: N/A; Last modified by: J.Jaramillo; Last modified date: 20240310; ComponentLink1Description: Digi-Key; ComponentLink1URL: https://www.digikey.com/en/products/detail/bivar-inc/H101CBC/3091017
footprint LED_RG_TH_RA (/20220516/J-E.Pachon)
pins: 1, 2

## LED_RGB_2.8x2.8mm_6PLCC_SMD
designator D1, comment RGB
LED RGB DIFFUSED 6PLCC SMD; Manufacturer part number: CLY6D-FKC-CK1N1D1BB7D3D3; Manufacturer: Cree Inc.; Supplier 1: Digi-Key; Supplier Part Number 1: CLY6D-FKC-CK1N1D1BB7D3D3CT-ND; Last modified by: J.Jaramillo; Last modified date: 20240310; Reel Stock: N/A; ComponentLink1Description: Digi-key; ComponentLink1URL: https://www.digikey.com/products/en?keywords=CLY6D-FKC-CK1N1D1BB7D3D3CT-ND
footprint LED_2.8X2.8MM_6PLCC (6-SMD - J-LEAD / 20191210 / C-D Viveros)
pins: 1 BK, 2 GK, 3 RK, 4 BA, 5 GA, 6 RA

## LED_RGB_3.2x3.2mm_6PLCC_SMD
designator D?, comment RGB
LED OSIRE E3635 SMD; Manufacturer: ams-OSRAM USA INC.; Manufacturer Part Number: LRTBGVSR-U4V2-JW+A6BB-D8+S2U2-7Z-20-S; Supplier 1: Digi-Key; Supplier Part Number 1: 475-LRTBGVSR-U4V2-JW+A6BB-D8+S2U2-7Z-20-STR-ND; Last modified by: J.Jaramillo; Last modified date: 20240310; Reel Stock: N/A; ComponentLink1Description: Digi-Key; ComponentLink1URL: https://www.digikey.com/en/products/detail/ams-osram-usa-inc/LRTBGVSR-U4V2-JW-A6BB-D8-S2U2-7Z-20-S/14292283?s=N4IgTCBcDaIDICUAqAhA4gNQMoILQFUAWDMXAKQHUBqAQQDYUVcARADiqzH1IHYAtXGAAMuLCAC6AXyA
footprint LED_6PLCC (/20230804/J-A.Sepulveda)
pins: 1 C1, 2 A3, 3 C3, 4 C2, 5 A2, 6 A1

## LED_RGB_4-SMD_1.6x1.6mm
designator D?, comment RGB
LED RGB DIFFUSED 4SMD; Manufacturer: Everlight Electronics Co Ltd; Manufacturer Part Number: EAST1616RGBB2; Supplier 1: Digi-Key; Supplier Part Number 1: 1080-1551-1-ND; Reel Stock: N/A; Last modified by: J.Jaramillo; Last modified date: 20240310; ComponentLink1Description: Digi-Key; ComponentLink1URL: https://www.digikey.com/en/products/detail/everlight-electronics-co-ltd/EAST1616RGBB2/8510360?s=N4IgTCBcDaIIwAYAcCC0cCsG7tQOQBEQBdAXyA
footprint LED_4-SMD_0606 (/20210106/J-E.Pachon)
pins: 1 CATH_RED, 2 CATH_GREEN, 3 CATH_BLUE, 4 COMM_ANODE

## LED_RGB_4-SMD_1.6x1.6mm_1
designator D?, comment RGB
LED RGB DIFFUSED 4SMD; Manufacturer: Hivemicro; Manufacturer Part Number: HM0606D-3C-XMC; Supplier 1: Poshton; Supplier Part Number 1: HM0606D-3C-XMC; Reel Stock: N/A; Last modified by: J.Jaramillo; Last modified date: 20240310
footprint LED_4-SMD_0606_1 (/20210810/J-E.Pachon)
pins: 1 COMM_ANODE, 2 CATH_RED, 3 CATH_BLUE, 4 CATH_GREEN

## LED_RGB_4-SMD_3.2x1.5mm
designator D?, comment RGB
LED RGB CLEAR 1206 SMD R/A; Manufacturer: Inolux; Manufacturer Part Number: IN-S126TASRGB; Supplier 1: Digi-Key; Supplier Part Number 1: 1830-1052-1-ND; Reel Stock: N/A; Last modified by: J.Jaramillo; Last modified date: 20240310; ComponentLink1Description: Digikey; ComponentLink1URL: https://www.digikey.co.uk/product-detail/en/inolux/IN-S126TASRGB/1830-1052-1-ND/7604685
footprint LED_4-SMD_1206 (/20201028/J-E.Pachon)
pins: 1 CATH_BLUE, 2 CATH_GREEN, 3 COMM_ANODE, 4 CATH_RED

## LED_RGB_4-SMD_3x1.5mm
designator D?, comment RGB
LED RGB CLEAR 4SMD R/A; Manufacturer: Kingbright; Manufacturer Part Number: APFA3010LSEEZGKQBKC; Supplier 1: Digi-Key; Supplier Part Number 1: 754-1971-1-ND; Reel Stock: N/A; Last modified by: J.Jaramillo; Last modified date: 20240310; ComponentLink1Description: Digi-Key; ComponentLink1URL: https://www.digikey.com/en/products/detail/kingbright/APFA3010LSEEZGKQBKC/5803663?s=N4IgTCBcDaIIIAUBicDMAGAjOgMgZQFECAtAcQGkBFAIXIGEQBdAXyA
footprint LED_4-SMD (4-SMD/20201002/J-E.Pachon)
pins: 1 CATH_RED, 2 COMM_ANODE, 3 CATH_GREEN, 4 CATH_BLUE

## LED_RGB_5x8.7mm_TH
designator D?, comment RGB
RGB 620~630nmRed, 515~530nmGreen, 460~470nmBlue Through Hole Light Emitting Diodes (LED) RoHS; Manufacturer: TOGIALED; Manufacturer Part Number: TJ-L5FYTXHMCSLCRGB-A5; Supplier 1: LCSC; Supplier Part Number 1: C330759; Reel Stock: N/A; Last modified by: J.Jaramillo; Last modified date: 20240310; ComponentLink1Description: LCSC; ComponentLink1URL: https://lcsc.com/product-detail/Light-Emitting-Diodes-LED_TOGIALED-TJ-L5FYTXHMCSLCRGB-A5_C330759.html
footprint LED_RGB_Th_8.7_HEIGHT (/20210602/J-E.Pachon)
pins: 1 R, 2 K, 3 G, 4 B

## LED_RGB_0404
designator D?, comment RGB
LED RGB CLEAR SMD; Manufacturer: Lumex Opto/Components Inc.; Manufacturer Part Number: SML-LX0404SIUPGUSB; Supplier 1: Digi-Key; Supplier Part Number 1: 67-2125-1-ND; Reel Stock: N/A; Last modified by: J.Jaramillo; Last modified date: 20240310; ComponentLink1Description: Digi-Key; ComponentLink1URL: https://www.digikey.com/en/products/detail/lumex-opto-components-inc/SML-LX0404SIUPGUSB/2509880?s=N4IgTCBcDaIMoFkAyBaJANADAFh3AkgKoAKA4oXAEIgC6AvkA
footprint LED_0404_4P (20211215 / E.Naranjo)
pins: 1 A, 2 R, 3 B, 4 G

## LED_RGB_3535
designator D?, comment RGB
ADDRESS LED DISCRETE SERIAL RGB; Manufacturer: Inolux; Manufacturer Part Number: IN-PI33TBTPRPGPB; Supplier 1: Digi-Key; Supplier Part Number 1: 1830-1208-1-ND; Reel Stock: N/A; Last modified by: J.Jaramillo; Last modified date: 20240310; ComponentLink1Description: Digi-Key; ComponentLink1URL: https://www.digikey.com/en/products/detail/inolux/IN-PI33TBTPRPGPB/9681238
footprint LED_3535_4P (/20210701/J-E.Pachon)
pins: 1 GND, 2 DIN, 3 VDD, 4 DOUT

## LED_RGB_5050
designator D1, comment RGB
LED RGB 50X50 HM-6862; Manufacturer part number: HM-6862DD-3C; Manufacturer: HiveMicro; Supplier 1: Poshton; Supplier Part Number 1: HM-6862DD-3C; Last modified by: J.Jaramillo; Last modified date: 20240310; Reel Stock: N/A; ComponentLink2Description: Datasheet; ComponentLink2URL: svn://ec2-54-176-255-252.us-west-1.compute.amazonaws.com/Titoma_Altium_Library/trunk/factory_datasheets
footprint LED_5050_6P (5050 LED, 6lead / 20190226 / H-D.Garcia)
pins: 2 VDD, 3 DO, 4 DIN, 5 VSS, 6 BIN

## LED_RGB_ADDRESSABLE_TH
designator D?, comment RGB
RGB 620~625nmRed,520~525nmGreen,465~470nmBlue Through Hole Light Emitting Diodes (LED) RoHS; Manufacturer part number: WS2812D-F8; Manufacturer: Worldsemi; Supplier 1: LCSC; Supplier Part Number 1: C139126; Last modified by: J.Jaramillo; Last modified date: 20240310; Reel Stock: N/A; ComponentLink1Description: LCSC; ComponentLink1URL: https://lcsc.com/product-detail/Light-Emitting-Diodes-LED_Worldsemi-WS2812D-F8_C139126.html
footprint LED_RGB_TH (/20210602/J-E.Pachon)
pins: 1 DO, 2 VDD, 3 VSS, 4 DIN

## LED_RGB_SMD_2.1x2.1x1mm
designator D?, comment RGB
Common anode RGB 110° SMD,2.1x2.1x1mm Light Emitting Diodes (LED) ROHS /; Manufacturer: Foshan NationStar Optoelectronics; Manufacturer Part Number: NH-B2020RGBA-HF; Supplier 1: LCSC; Supplier Part Number 1: C2874116; Reel Stock: N/A; Last modified by: J.Jaramillo; Last modified date: 20240310; ComponentLink1Description: LCSC; ComponentLink1URL: https://lcsc.com/product-detail/Light-Emitting-Diodes-LED_Foshan-NationStar-Optoelectronics-NH-B2020RGBA-HF_C2874116.html
footprint LED_4-SMD_2.1X2.1MM (/20220305/V-A.Patino)
pins: 1 R, 2 B, 3 A, 4 G

## LED_RGB_SMD_3.5x2.7x1.9mm
designator D?, comment RGB
RGB 617nm627nmRed,515~525nmGreen,464~474nmBlue 2VRed,3VGreen,3VBlue SMD,3.5x2.7x1.9mm Light Emitting Diodes (LED) RoHS; Manufacturer: HONGLITRONIC(Hongli Zhihui (HONGLITRONIC)); Manufacturer Part Number: HL-AF-3528S39FU70GH203BC-A-S1-HL; Supplier 1: LCSC; Supplier Part Number 1: C516144; Reel Stock: N/A; Last modified by: J.Jaramillo; Last modified date: 20240310; ComponentLink1Description: LCSC; ComponentLink1URL: https://lcsc.com/product-detail/Light-Emitting-Diodes-LED_HONGLITRONIC-Hongli-Zhihui-HONGLITRONIC-HL-AF-3528S39FU70GH203BC-A-S1-HL_C516144.html
footprint LED_4-SMD_ 3.5x2.7x1.9mm (/20210707/N-A.Potosi)
pins: 1 R, 2 A, 3 G, 4 B

## LED_RGY_SMD_3.2x2.8x1.85mm
designator D?, comment RGY
Green, Red, Yellow 570nm Green, 640nm Red, 585nm Yellow LED Indication - Discrete 1.9V Green, 1.85V Red, 1.9V Yellow 4-PLCC; Manufacturer: Bivar Inc.; Manufacturer Part Number: SMTL4-RGY; Supplier 1: Digi-key; Supplier Part Number 1: 492-2173-1-ND; Reel Stock: N/A; Last modified by: J.Jaramillo; Last modified date: 20240310; ComponentLink1Description: LCSC; ComponentLink1URL: https://www.digikey.com/en/products/detail/bivar-inc/SMTL4-RGY/6164964
footprint LED_4_RGY_SMD_3.2X2.8X2.05MM (/20220630/F-A.Ospina)
pins: 1 G, 2 Y, 3 R, 4 A

## LED_SMD_3.5x2.7x1.9mm
designator D?, comment RGB
RGB 617nm627nmRed,515~525nmGreen,464~474nmBlue 2VRed,3VGreen,3VBlue SMD,3.5x2.7x1.9mm Light Emitting Diodes (LED) RoHS; Manufacturer: HONGLITRONIC(Hongli Zhihui (HONGLITRONIC)); Manufacturer Part Number: HL-AF-3528S39FU70GH203BC-A-S1-HL; Supplier 1: LCSC; Supplier Part Number 1: C516144; Reel Stock: N/A; Last modified by: J.Jaramillo; Last modified date: 20240310; ComponentLink1Description: LCSC; ComponentLink1URL: https://lcsc.com/product-detail/Light-Emitting-Diodes-LED_HONGLITRONIC-Hongli-Zhihui-HONGLITRONIC-HL-AF-3528S39FU70GH203BC-A-S1-HL_C516144.html
footprint LED_4-SMD_ 3.5x2.7x1.9mm (/20210707/N-A.Potosi)
pins: 1 R, 2 A, 3 G, 4 B

## LED_SMD_3.5x2.7x1.9mm_1
designator D?, comment RGB
RGB 617nm627nmRed,515~525nmGreen,464~474nmBlue 2VRed,3VGreen,3VBlue SMD,3.5x2.7x1.9mm Light Emitting Diodes (LED) RoHS; Manufacturer: HONGLITRONIC(Hongli Zhihui (HONGLITRONIC)); Manufacturer Part Number: HL-AF-3528S39FU70GH203BC-A-S1-HL; Supplier 1: LCSC; Supplier Part Number 1: C516144; Reel Stock: N/A; Last modified by: J.Jaramillo; Last modified date: 20240310; ComponentLink1Description: LCSC; ComponentLink1URL: https://lcsc.com/product-detail/Light-Emitting-Diodes-LED_HONGLITRONIC-Hongli-Zhihui-HONGLITRONIC-HL-AF-3528S39FU70GH203BC-A-S1-HL_C516144.html
footprint LED_4-SMD_ 3.5x2.7x1.9mm (/20210707/N-A.Potosi)
pins: 1 R, 2 A, 3 G, 4 B

## LED_UV_395nm
designator D?, comment 395nm
LED UV 395NM 700MA SMD; Manufacturer: QT Brightek (QTB); Manufacturer Part Number: QBHP684E-UV395BS; Supplier 1: Digi-Key; Supplier Part Number 1: 1516-1201-1-ND; Reel Stock: N/A; Last modified by: J.Jaramillo; Last modified date: 20240310; ComponentLink1Description: Digi-Key; ComponentLink1URL: https://www.digikey.com/product-detail/en/qt-brightek-qtb/QBHP684E-UV395BS/1516-1201-1-ND/6151889
footprint LED_3535_EP (1414/3.5mmx3.5mm/ 20190527/ J-P.Vargas.A)
pins: 1 K, 2 A, 3 EP

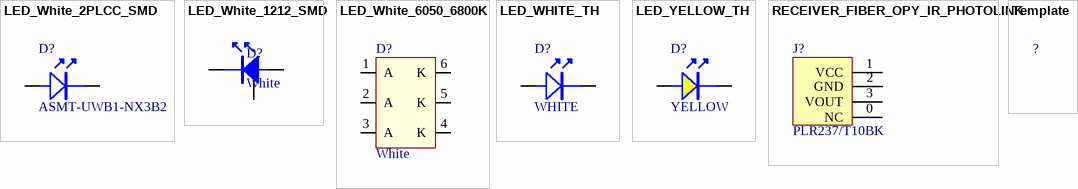
[diagram p2: symbols LED_White_2PLCC_SMD to Template]

## LED_White_2PLCC_SMD
designator D?, comment ASMT-UWB1-NX3B2
LED COOL WHITE DIFF 2PLCC SMD; Manufacturer: Broadcom Limited; Manufacturer Part Number: ASMT-UWB1-NX3B2; Supplier 1: Digi-Key; Supplier Part Number 1: 516-2958-1-ND; Last modified by: J.Jaramillo; Last modified date: 20240310; Reel Stock: N/A; ComponentLink1Description: Digi-Key; ComponentLink1URL: https://www.digikey.com/en/products/detail/broadcom-limited/ASMT-UWB1-NX3B2/3466522?s=N4IgTCBcDaIIIGUCyAVAtAVQOoCECMaAcgBoDMOEAugL5A
footprint LED_2PLCC (20220822/J-E.Pachon)
pins: 1 A, 2 K

## LED_White_1212_SMD
designator D?, comment White
LED OSLON COOL WHT 5700K SMD; Manufacturer: OSRAM Opto (ams OSRAM); Manufacturer Part Number: GW CS8PM1.PM-LSLU-XX52-1; Supplier 1: Digi-Key; Supplier Part Number 1: 475-3296-1-ND; Last modified by: J.Jaramillo; Last modified date: 20240310; Reel Stock: N/A; ComponentLink2Description: Digi-Key; ComponentLink2URL: https://www.digikey.com/en/products/detail/osram-opto-ams-osram/GW-CS8PM1-PM-LSLU-XX52-1/6599014?s=N4IgTCBcDaIOxgAwFoDiB1AwgZQBwAUBZARiIEFjEAWREAXQF8g
footprint LED_WHITE_SMD_1212 (/20221118/J-A.Sepulveda)
pins: 1 K, 2 A, 3

## LED_White_6050_6800K
designator D?, comment White
LED COOL WHITE DIFF 6PLCC SMD; Manufacturer: Cree Inc.; Manufacturer Part Number: CLP6B-WKW-CD0E0453; Supplier 1: Digi-Key; Supplier Part Number 1: CLP6B-WKW-CD0E0453CT-ND; Reel Stock: N/A; Last modified by: J.Jaramillo; Last modified date: 20240310; ComponentLink1Description: Digi-Key; ComponentLink1URL: https://www.digikey.com/product-detail/en/cree-inc/CLP6B-WKW-CD0E0453/CLP6B-WKW-CD0E0453CT-ND/1987486
footprint LED_6050_6P (6050 LED, 6lead / 20190527/ J-P.Vargas.A)
pins: 1 A, 2 A, 3 A, 4 K, 5 K, 6 K

## LED_WHITE_TH
designator D?, comment WHITE
LED WHITE CLEAR T-1 T/H; Manufacturer: Rohm Semiconductor; Manufacturer Part Number: SLR343WBD2PT21; Supplier 1: Digi-key; Supplier Part Number 1: 511-1635-1-ND; Last modified by: J.Jaramillo; Last modified date: 20240310; Reel Stock: N/A; ComponentLink1Description: Digi-key; ComponentLink1URL: https://www.digikey.tw/products/en?keywords=511-1635-1-ND
footprint LED_WHITE_TH_3.8mm (/20230811/J-A.Sepulveda)
pins: 1 A, 2 K

## LED_YELLOW_TH
designator D?, comment YELLOW
Yellow 585nm~595nm 1.7V~2.5V Through Hole Light Emitting Diodes (LED) RoHS; Manufacturer: TOGIALED; Manufacturer Part Number: TJ-L5FYTGHYMCGLFLC9Y-A5; Supplier 1: LCSC; Supplier Part Number 1: C330741; Last modified by: J.Jaramillo; Last modified date: 20240310; Reel Stock: N/A; ComponentLink1Description: LCSC; ComponentLink1URL: https://lcsc.com/product-detail/Light-Emitting-Diodes-LED_TOGIALED-TJ-L5FYTGHYMCGLFLC9Y-A5_C330741.html
footprint LED_YELLOW_TH (/20220830/F-A.Ocpina)
pins: 1 A, 2 K

## RECEIVER_FIBER_OPY_IR_PHOTOLINK
designator J?, comment PLR237/T10BK
FIBER OPTIC TRANSMITTER IR; Manufacturer: Everlight Electronics Co Ltd; Manufacturer Part Number: PLR237/T10BK; Supplier 1: Digi-Key; Supplier Part Number 1: 1080-PLR237/T10BK-ND; Last modified by: J.Jaramillo; Last modified date: 20240310; Reel Stock: N/A; ComponentLink1Description: Digi-Key Link; ComponentLink1URL: https://www.digikey.com/en/products/detail/everlight-electronics-co-ltd/PLR237-T10BK/14641723
footprint PLR237/T10BK (FIBER OPTIC TRANSMITTER IR)
pins: 0 NC, 1 VCC, 2 GND (power), 3 VOUT (power)

## Template
designator ?
Last modified by: J.Jaramillo; Last modified date: 20240310; Reel Stock: N/A; ComponentLink1Description: Link